# Altium schematic symbol library IC_STMicroelectronics_ M24256-BFMC6TG_EEPROM.SchLib: 1 symbol
Pins are listed as number, name and electrical type; pins without a type are passive.

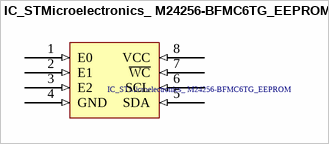
[diagram p0: symbol IC_STMicroelectronics_ M24256-BFMC6TG_EEPROM]

## IC_STMicroelectronics_ M24256-BFMC6TG_EEPROM
designator U?
EEPROM 256kB Serial I2C 3-Chip Enable 1 MHz; Supplier 1: Mouser; Supplier Part Number 1: 511-M24256-DRMN8TP/K
footprint IC_STMicroelectronics_ M24256-BFMC6TG_EEPROM
pins: 1 E0 (in), 2 E1 (in), 3 E2 (in), 4 GND (in), 5 SDA (in), 6 SCL (in), 7 ~{WC} (in), 8 VCC (in)